# EAGLE library part LPS331AP (library Kas-Sensors)
LPS331AP Pressure sensor MEMS pressure sensor, 260-1260 mbar absolute digital output barometer
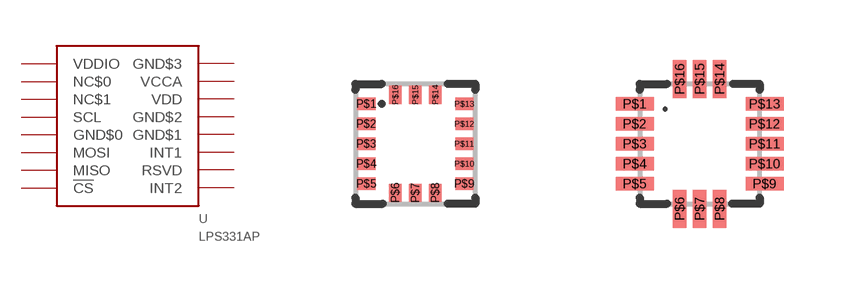
[diagram p4: symbol with the pads of LGA-16(3X3); footprints LGA-16(3X3), LGA-16(3X3)_HS]

Designator prefix U

## LPS331AP  [LGA-16(3X3)]
P$1  VDDIO
P$2  NC$0
P$3  NC$1
P$4  SCL
P$5  GND$0
P$6  MOSI
P$7  MISO
P$8  !CS
P$9  INT2
P$10  RSVD
P$11  INT1
P$12  GND$1
P$13  GND$2
P$14  VDD
P$15  VCCA
P$16  GND$3

## LPS331AP_HS  [LGA-16(3X3)_HS]
Pads as for LGA-16(3X3)

## Footprint LGA-16(3X3) (pad centres in mm)
12.58268 x 17.71654 should be 13.58268 x 17.71654 footprints
smd 0.45 x 0.32: P$1 -1.225,1; P$2 -1.225,0.5; P$3 -1.225,0; P$4 -1.225,-0.5; P$5 -1.225,-1; P$9 1.225,-1; P$10 1.225,-0.5; P$11 1.225,0; P$12 1.225,0.5; P$13 1.225,1
smd 0.32 x 0.45: P$6 -0.5,-1.225; P$7 0,-1.225; P$8 0.5,-1.225; P$14 0.5,1.225; P$15 0,1.225; P$16 -0.5,1.225

## Footprint LGA-16(3X3)_HS (pad centres in mm)
smd 0.95 x 0.34: P$1 -1.625,1; P$2 -1.625,0.5; P$3 -1.625,0; P$4 -1.625,-0.5; P$5 -1.625,-1; P$9 1.625,-1; P$10 1.625,-0.5; P$11 1.625,0; P$12 1.625,0.5; P$13 1.625,1
smd 0.34 x 0.95: P$6 -0.5,-1.625; P$7 0,-1.625; P$8 0.5,-1.625; P$14 0.5,1.625; P$15 0,1.625; P$16 -0.5,1.625